# Altium schematic symbol library CAP 5.6uF 6.3V.Schlib: 1 symbol
Pins are listed as number, name and electrical type; pins without a type are passive.

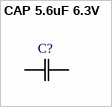
[diagram p0: symbol CAP 5.6uF 6.3V]

## CAP 5.6uF 6.3V
designator C?
CAP CER 5.6UF 6.3V X5R 0805
pins: 1 C1, 2 C2